# EAGLE library part STM32L031G6 (library ICs)
Access line ultra-low-power 32-bit MCU Arm®-based Cortex®-M0+, up to 32KB Flash, 8KB SRAM, 1KB EEPROM, ADC
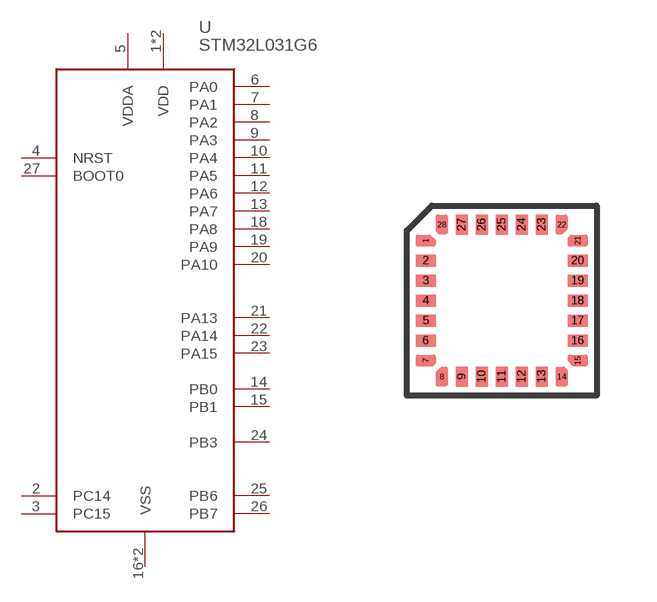
[diagram p213: symbol with the pads of UFQPN28; footprint UFQPN28]

Designator prefix U

## STM32L031G6 (DIGIKEY: 497-17485-ND; HEIGHT: 0.7; PRICE_PER: 1.71; VALUE: STM32L031G6)  [UFQPN28]
1  VDD
2  PC14
3  PC15
4  NRST
5  VDDA
6  PA0
7  PA1
8  PA2
9  PA3
10  PA4
11  PA5
12  PA6
13  PA7
14  PB0
15  PB1
16  VSS
17  VDD
18  PA8
19  PA9
20  PA10
21  PA13
22  PA14
23  PA15
24  PB3
25  PB6
26  PB7
27  BOOT0
28  VSS

## Footprint UFQPN28 (pad centres in mm)
smd 0.15 x 0.15: 1 -1.9,1.5; 7 -1.9,-1.5; 8 -1.5,-1.9; 14 1.5,-1.9; 15 1.9,-1.5; 21 1.9,1.5; 22 1.5,1.9; 28 -1.5,1.9
smd 0.5 x 0.3: 2 -1.9,1; 3 -1.9,0.5; 4 -1.9,0; 5 -1.9,-0.5; 6 -1.9,-1; 16 1.9,-1; 17 1.9,-0.5; 18 1.9,0; 19 1.9,0.5; 20 1.9,1
smd 0.3 x 0.5: 9 -1,-1.9; 10 -0.5,-1.9; 11 0,-1.9; 12 0.5,-1.9; 13 1,-1.9; 23 1,1.9; 24 0.5,1.9; 25 0,1.9; 26 -0.5,1.9; 27 -1,1.9